# Altium footprint library SOT-5X3.PcbLib: 1 footprints
Each footprint in its own frame and in the unit in brackets; x right, y up, seen from the top. Pads: shape width x height; smd on the part's side, far side on the other; paste and mask are expansions set on the pad; w line width, h text height; cw(c..) or ccw(c..) is an arc to the next point about the centre after c.
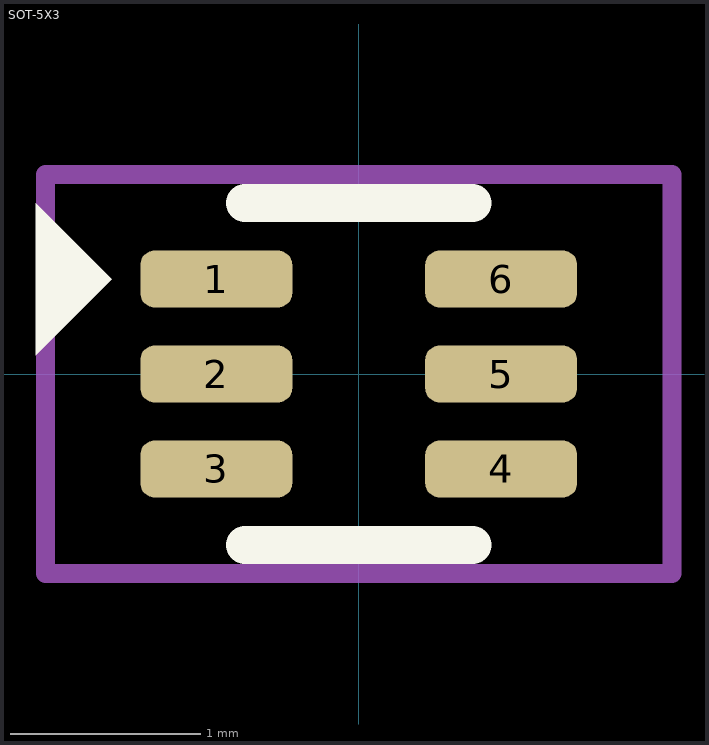
[diagram p0: the footprint, top view; thin cyan lines are the x and y axes]

## SOT-5X3 [mm]
pads (6):
  rrect50% 0.8x0.3 smd: 1(-0.75,0.5) 2(-0.75,0) 3(-0.75,-0.5) 4(0.75,-0.5) 5(0.75,0) 6(0.75,0.5)
Top Overlay:
  region: -1.7,0.1 -1.7,0.9 -1.3,0.5
  lines w0.2: -0.6,-0.9 0.6,-0.9 ; -0.6,0.9 0.6,0.9
Top Courtyard:
  lines w0.1: -1.65,-1.05 1.65,-1.05 1.65,1.05 -1.65,1.05 -1.65,-1.05
3D body "step_temp.STEP": height 0.6, standoff 0, extent -0.8,-0.8 0.8,0.8